# EAGLE library part GRAFTEL-INTERNAL-IC_EINK_EPD0231 (library graftel-internal-ic)
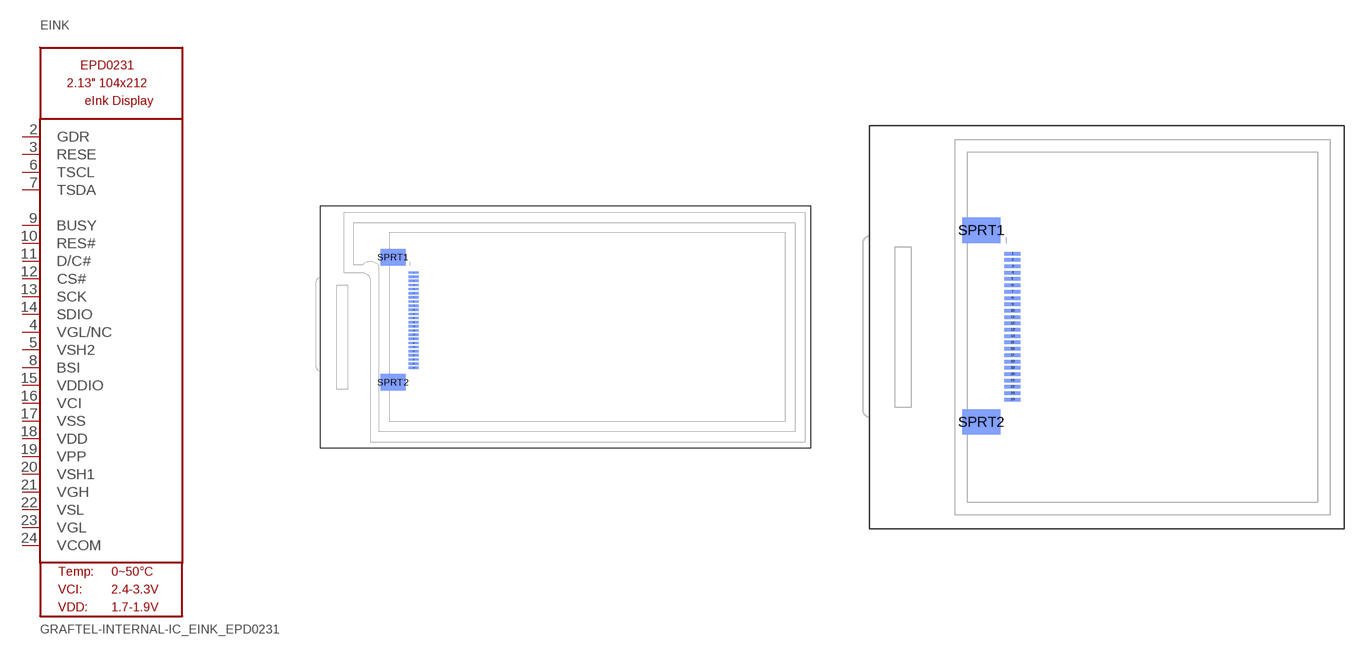
[diagram p77: symbol with the pads of GRAFTEL-INTERNAL-IC_EINK_213IN_104X212; footprints GRAFTEL-INTERNAL-IC_EINK_213IN_104X212, GRAFTEL-INTERNAL-IC_EINK_154IN]

Designator prefix EINK

## GRAFTEL-INTERNAL-IC_EINK_EPD0231  [GRAFTEL-INTERNAL-IC_EINK_213IN_104X212]
2  GDR  out
3  RESE  in
4  VGL/NC
5  VSH2  pas
6  TSCL  out
7  TSDA
8  BSI  in
9  BUSY  out
10  RES#  in
11  D/C#  in
12  CS#  in
13  SCK
14  SDIO
15  VDDIO  pwr
16  VCI  pwr
17  VSS  pwr
18  VDD  pas
19  VPP  pas
20  VSH1  pas
21  VGH  pas
22  VSL  pas
23  VGL  pas
24  VCOM  pas

## GRAFTEL-INTERNAL-IC_EINK_EPD0231EINK_154IN_200X200  [GRAFTEL-INTERNAL-IC_EINK_154IN]
Pads as for GRAFTEL-INTERNAL-IC_EINK_213IN_104X212

## GRAFTEL-INTERNAL-IC_EINK_EPD0231EINK_270IN  [GRAFTEL-INTERNAL-IC_EINK_270IN]
Pads as for GRAFTEL-INTERNAL-IC_EINK_213IN_104X212

## GRAFTEL-INTERNAL-IC_EINK_EPD0231EKIN_266IN  [GRAFTEL-INTERNAL-IC_EINK_266IN]
Pads as for GRAFTEL-INTERNAL-IC_EINK_213IN_104X212

## Footprint GRAFTEL-INTERNAL-IC_EINK_213IN_104X212 (pad centres in mm)
smd 1.25 x 0.275 bottom: 1 11.26,-8; 2 11.26,-8.5; 3 11.26,-9; 4 11.26,-9.5; 5 11.26,-10; 6 11.26,-10.5; 7 11.26,-11; 8 11.26,-11.5; 9 11.26,-12; 10 11.26,-12.5; 11 11.26,-13; 12 11.26,-13.5; 13 11.26,-14; 14 11.26,-14.5; 15 11.26,-15; 16 11.26,-15.5; 17 11.26,-16; 18 11.26,-16.5; 19 11.26,-17; 20 11.26,-17.5; 21 11.26,-18; 22 11.26,-18.5; 23 11.26,-19; 24 11.26,-19.5
smd 3 x 2 bottom: SPRT1 8.8,-6.15; SPRT2 8.8,-21.26

## Footprint GRAFTEL-INTERNAL-IC_EINK_154IN (pad centres in mm)
smd 1.25 x 0.275 bottom: 1 3.56,-8; 2 3.56,-8.5; 3 3.56,-9; 4 3.56,-9.5; 5 3.56,-10; 6 3.56,-10.5; 7 3.56,-11; 8 3.56,-11.5; 9 3.56,-12; 10 3.56,-12.5; 11 3.56,-13; 12 3.56,-13.5; 13 3.56,-14; 14 3.56,-14.5; 15 3.56,-15; 16 3.56,-15.5; 17 3.56,-16; 18 3.56,-16.5; 19 3.56,-17; 20 3.56,-17.5; 21 3.56,-18; 22 3.56,-18.5; 23 3.56,-19; 24 3.56,-19.5
smd 3 x 2 bottom: SPRT1 1.1,-6.15; SPRT2 1.1,-21.26

## Footprint GRAFTEL-INTERNAL-IC_EINK_270IN (pad centres in mm)
smd 1.25 x 0.275 bottom: 1 3.56,-22.25; 2 3.56,-22.75; 3 3.56,-23.25; 4 3.56,-23.75; 5 3.56,-24.25; 6 3.56,-24.75; 7 3.56,-25.25; 8 3.56,-25.75; 9 3.56,-26.25; 10 3.56,-26.75; 11 3.56,-27.25; 12 3.56,-27.75; 13 3.56,-28.25; 14 3.56,-28.75; 15 3.56,-29.25; 16 3.56,-29.75; 17 3.56,-30.25; 18 3.56,-30.75; 19 3.56,-31.25; 20 3.56,-31.75; 21 3.56,-32.25; 22 3.56,-32.75; 23 3.56,-33.25; 24 3.56,-33.75
smd 3 x 2 bottom: SPRT1 1.1,-20.4; SPRT2 1.1,-35.51

## Footprint GRAFTEL-INTERNAL-IC_EINK_266IN (pad centres in mm)
smd 1.25 x 0.275 bottom: 1 19.26,21.85; 2 19.26,21.35; 3 19.26,20.85; 4 19.26,20.35; 5 19.26,19.85; 6 19.26,19.35; 7 19.26,18.85; 8 19.26,18.35; 9 19.26,17.85; 10 19.26,17.35; 11 19.26,16.85; 12 19.26,16.35; 13 19.26,15.85; 14 19.26,15.35; 15 19.26,14.85; 16 19.26,14.35; 17 19.26,13.85; 18 19.26,13.35; 19 19.26,12.85; 20 19.26,12.35; 21 19.26,11.85; 22 19.26,11.35; 23 19.26,10.85; 24 19.26,10.35
smd 3 x 2 bottom: SPRT1 16.8,23.7; SPRT2 16.8,8.59